# EAGLE library part MAX232DR (library microchip-nuno)
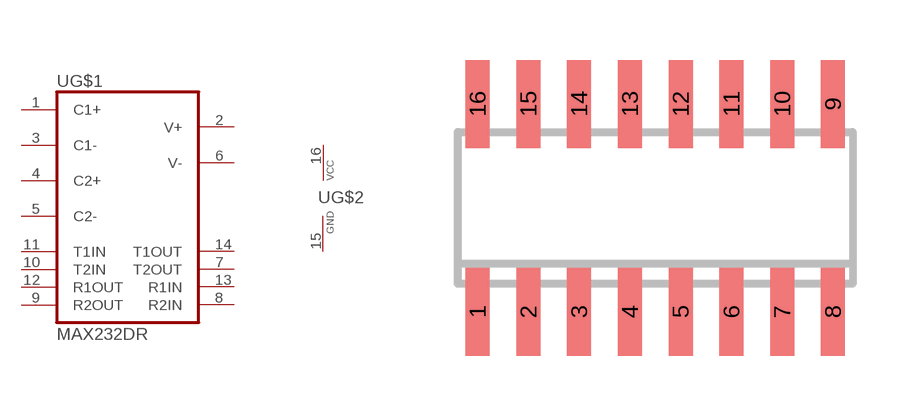
[diagram p4: symbol with the pads of SO-16; footprint SO-16]

Designator prefix -; gates G$1=MAX232DR G$2=VCC-GND

## MAX232DR  [SO-16]
1  G$1:C1+
2  G$1:V+
3  G$1:C1-
4  G$1:C2+
5  G$1:C2-
6  G$1:V-
7  G$1:T2OUT  out
8  G$1:R2IN  in
9  G$1:R2OUT  out
10  G$1:T2IN  in
11  G$1:T1IN  in
12  G$1:R1OUT  out
13  G$1:R1IN  in
14  G$1:T1OUT  out
15  G$2:GND  pwr
16  G$2:VCC  pwr

## Footprint SO-16 (pad centres in mm)
smd 0.6 x 2.2: 1 -12.065,-1.33; 2 -10.795,-1.33; 3 -9.525,-1.33; 4 -8.255,-1.33; 5 -6.985,-1.33; 6 -5.715,-1.33; 7 -4.445,-1.33; 8 -3.175,-1.33; 9 -3.175,3.87; 10 -4.445,3.87; 11 -5.715,3.87; 12 -6.985,3.87; 13 -8.255,3.87; 14 -9.525,3.87; 15 -10.795,3.87; 16 -12.065,3.87